# Altium schematic symbol library LED PTH 5mm.SchLib: 5 symbols
Pins are listed as number, name and electrical type; pins without a type are passive.

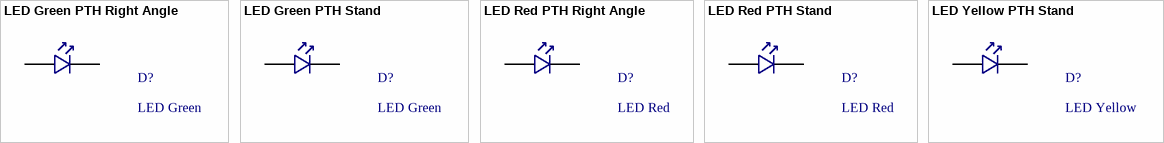
[diagram p0: symbols LED Green PTH Right Angle to LED Yellow PTH Stand]

## LED Green PTH Right Angle
designator D?, comment LED Green
Green 527nm LED Indication - Discrete 3.2V Radial; Manufacturer 1: Wurth Electronics Inc.; Manufacturer 1 PN: 151053GS03000; ComponentLink1Description: Datasheet; ComponentLink1URL: https://www.cree.com/led-components/media/documents/C503B-BAS-BAN-BCS-BCN-GAS-GAN-GCS-GCN-1094.pdf; Digikey PN: 732-5020-ND; Mouser PN: 710-151053GS03000
footprint LED GREEN PTH RIGHT ANGLE (Green 527nm LED Indication - Discrete 3.2V Radial)
pins: A, K

## LED Green PTH Stand
designator D?, comment LED Green
Green 527nm LED Indication - Discrete 3.2V Radial; Manufacturer 1: Wurth Electronics Inc.; Manufacturer 1 PN: 151053GS03000; ComponentLink1Description: Datasheet; ComponentLink1URL: https://www.cree.com/led-components/media/documents/C503B-BAS-BAN-BCS-BCN-GAS-GAN-GCS-GCN-1094.pdf; Digikey PN: 732-5020-ND; Mouser PN: 710-151053GS03000
footprint LED GREEN PTH STAND (Green 527nm LED Indication - Discrete 3.2V Radial)
pins: A, K

## LED Red PTH Right Angle
designator D?, comment LED Red
Red 623nm LED Indication - Discrete 1.9V Radial; Manufacturer 1: Wurth Electronics Inc.; Manufacturer 1 PN: 151053RS03000; ComponentLink1Description: Datasheet; ComponentLink1URL: https://www.cree.com/led-components/media/documents/C503B-BAS-BAN-BCS-BCN-GAS-GAN-GCS-GCN-1094.pdf; Digikey PN: 732-5021-ND; Mouser PN: 710-151053RS03000
footprint LED RED PTH RIGHT ANGLE (Red 623nm LED Indication - Discrete 1.9V Radial)
pins: A, K

## LED Red PTH Stand
designator D?, comment LED Red
Red 623nm LED Indication - Discrete 1.9V Radial; Manufacturer 1: Wurth Electronics Inc.; Manufacturer 1 PN: 151053RS03000; ComponentLink1Description: Datasheet; ComponentLink1URL: https://www.cree.com/led-components/media/documents/C503B-BAS-BAN-BCS-BCN-GAS-GAN-GCS-GCN-1094.pdf; Digikey PN: 732-5021-ND; Mouser PN: 710-151053RS03000
footprint LED RED PTH STAND (Red 623nm LED Indication - Discrete 1.9V Radial)
pins: A, K

## LED Yellow PTH Stand
designator D?, comment LED Yellow
Yellow 590nm LED Indication - Discrete 2.1V Radial; Manufacturer 1: Wurth Electronics Inc.; Manufacturer 1 PN: 151053RS03000; ComponentLink1Description: Datasheet; ComponentLink1URL: https://www.cree.com/led-components/media/documents/C503B-BAS-BAN-BCS-BCN-GAS-GAN-GCS-GCN-1094.pdf; Digikey PN: 732-5021-ND; Mouser PN: 710-151053RS03000
footprint LED YELLOW PTH STAND (Red 623nm LED Indication - Discrete 1.9V Radial)
pins: A, K